# Altium footprint library PCB - RF MODULE - U-BLOX NINA-B112.PcbLib: 1 footprints
Each footprint in its own frame and in the unit in brackets; x right, y up, seen from the top. Pads: shape width x height; smd on the part's side, far side on the other; paste and mask are expansions set on the pad; w line width, h text height; cw(c..) or ccw(c..) is an arc to the next point about the centre after c.
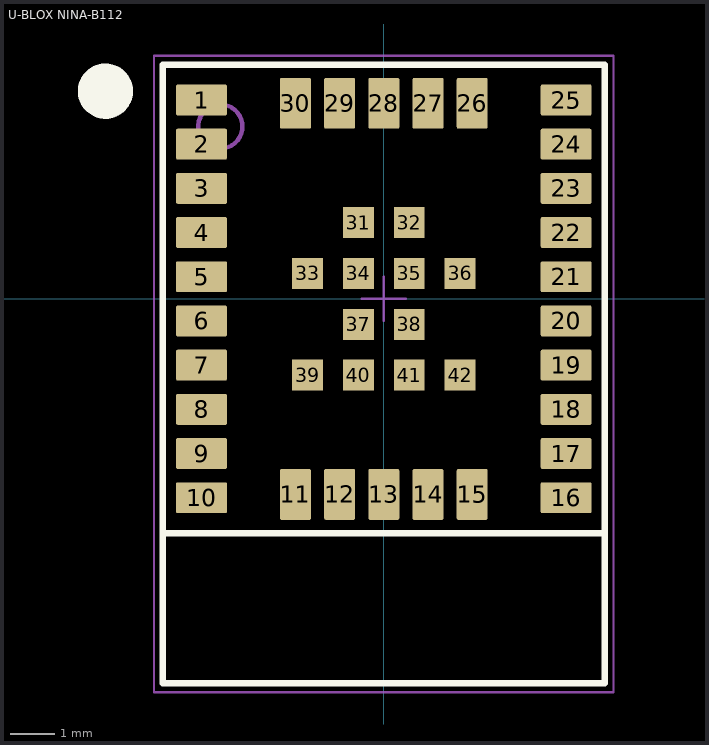
[diagram p0: the footprint, top view; thin cyan lines are the x and y axes]

## U-BLOX NINA-B112 [mm] "30-SMD Module"
pads (42):
  rrect10% 1.15x0.7 smd paste+0 mask+0.05: 1(-4.125,4.5) 2(-4.125,3.5) 3(-4.125,2.5) 4(-4.125,1.5) 5(-4.125,0.5) 6(-4.125,-0.5) 7(-4.125,-1.5) 8(-4.125,-2.5) 9(-4.125,-3.5) 10(-4.125,-4.5) 16(4.125,-4.5) 17(4.125,-3.5) 18(4.125,-2.5) 19(4.125,-1.5) 20(4.125,-0.5) 21(4.125,0.5) 22(4.125,1.5) 23(4.125,2.5) 24(4.125,3.5) 25(4.125,4.5)
  rrect10% 0.7x1.15 smd paste+0 mask+0.05: 11(-2,-4.425) 12(-1,-4.425) 13(0,-4.425) 14(1,-4.425) 15(2,-4.425) 26(2,4.425) 27(1,4.425) 28(0,4.425) 29(-1,4.425) 30(-2,4.425)
  rect 0.7x0.7 smd paste+0 mask+0.05: 31(-0.575,1.725) 32(0.575,1.725) 33(-1.725,0.575) 34(-0.575,0.575) 35(0.575,0.575) 36(1.725,0.575) 37(-0.575,-0.575) 38(0.575,-0.575) 39(-1.725,-1.725) 40(-0.575,-1.725) 41(0.575,-1.725) 42(1.725,-1.725)
Top Overlay:
  circle w0.75: c-6.3,4.7 r0.25
  lines w0.15: -5,-5.3 5,-5.3 ; -5,-8.7 5,-8.7 5,5.3 -5,5.3 -5,-8.7
Mechanical 13:
  circle w0.1: c-3.7,3.9 r0.5
  lines w0.1: -5,-8.7 5,-8.7 5,5.3 -5,5.3 -5,-8.7
Mechanical 15:
  lines w0.05: -0.5,0.001 0.5,0.001 ; 0,-0.499 0,0.501 ; -5.2,-8.9 -5.2,5.5 5.2,5.5 5.2,-8.9 -5.2,-8.9
3D body "NINA-B112.stp": height 3.76, standoff -0.02, extent -5,-8.7 5,5.3